# Altium schematic symbol library TPS71533DCKR.SchLib: 1 symbol
Pins are listed as number, name and electrical type; pins without a type are passive.

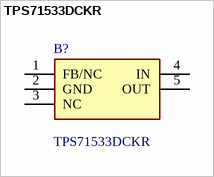
[diagram p0: symbol TPS71533DCKR]

## TPS71533DCKR
designator B?
TPS71533DCKR, Low Dropout Voltage Regulator, 0.05A, 3.3V +/-4%, 2.5 to 24Vin, 0.32W, 5-Pin SC-70; Manufacturer_Name: Texas Instruments; Geometry.Height: 1.1mm; Mouser Part Number: 595-TPS71533DCKR; Mouser Price/Stock: https://www.mouser.co.uk/ProductDetail/Texas-Instruments/TPS71533DCKR?qs=UGVLDq%2F29uheQ5adrJJj1w%3D%3D; Manufacturer_Part_Number: TPS71533DCKR; Datasheet Link: https://datasheet.datasheetarchive.com/originals/distributors/Datasheets-SFU2/DSASFU100034056.pdf
footprint SOT65P210X110-5N
pins: 1 FB/NC, 2 GND, 3 NC, 4 IN, 5 OUT